# Altium footprint library ad.PcbLib: 129 footprints (part 6 of 12)
Each footprint in its own frame and in the unit in brackets; x right, y up, seen from the top. Pads: shape width x height; smd on the part's side, far side on the other; paste and mask are expansions set on the pad; w line width, h text height; cw(c..) or ccw(c..) is an arc to the next point about the centre after c.
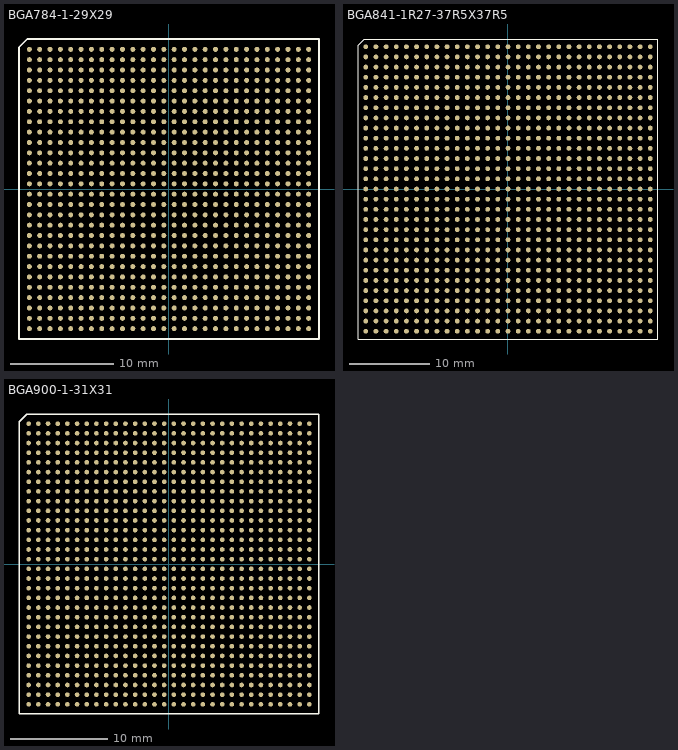
[diagram p5: the footprints below, top view; thin cyan lines are the x and y axes]

## BGA784-1-29X29 [mm]
pads (784):
  round 0.48 smd: A1(-13.5,13.5) A2(-12.5,13.5) A3(-11.5,13.5) A4(-10.5,13.5) A5(-9.5,13.5) A6(-8.5,13.5) A7(-7.5,13.5) A8(-6.5,13.5) A9(-5.5,13.5) A10(-4.5,13.5) A11(-3.5,13.5) A12(-2.5,13.5) A13(-1.5,13.5) A14(-0.5,13.5) A15(0.5,13.5) A16(1.5,13.5) A17(2.5,13.5) A18(3.5,13.5) A19(4.5,13.5) A20(5.5,13.5) A21(6.5,13.5) A22(7.5,13.5) A23(8.5,13.5) A24(9.5,13.5) A25(10.5,13.5) A26(11.5,13.5) A27(12.5,13.5) A28(13.5,13.5) AA1(-13.5,-6.5) AA2(-12.5,-6.5) AA3(-11.5,-6.5) AA4(-10.5,-6.5) AA5(-9.5,-6.5) AA6(-8.5,-6.5) AA7(-7.5,-6.5) AA8(-6.5,-6.5) AA9(-5.5,-6.5) AA10(-4.5,-6.5) AA11(-3.5,-6.5) AA12(-2.5,-6.5) AA13(-1.5,-6.5) AA14(-0.5,-6.5) AA15(0.5,-6.5) AA16(1.5,-6.5) AA17(2.5,-6.5) AA18(3.5,-6.5) AA19(4.5,-6.5) AA20(5.5,-6.5) AA21(6.5,-6.5) AA22(7.5,-6.5) AA23(8.5,-6.5) AA24(9.5,-6.5) AA25(10.5,-6.5) AA26(11.5,-6.5) AA27(12.5,-6.5) AA28(13.5,-6.5) AB1(-13.5,-7.5) AB2(-12.5,-7.5) AB3(-11.5,-7.5) AB4(-10.5,-7.5) AB5(-9.5,-7.5) AB6(-8.5,-7.5) AB7(-7.5,-7.5) AB8(-6.5,-7.5) AB9(-5.5,-7.5) AB10(-4.5,-7.5) AB11(-3.5,-7.5) AB12(-2.5,-7.5) AB13(-1.5,-7.5) AB14(-0.5,-7.5) AB15(0.5,-7.5) AB16(1.5,-7.5) AB17(2.5,-7.5) AB18(3.5,-7.5) AB19(4.5,-7.5) AB20(5.5,-7.5) AB21(6.5,-7.5) AB22(7.5,-7.5) AB23(8.5,-7.5) AB24(9.5,-7.5) AB25(10.5,-7.5) AB26(11.5,-7.5) AB27(12.5,-7.5) AB28(13.5,-7.5) AC1(-13.5,-8.5) AC2(-12.5,-8.5) AC3(-11.5,-8.5) AC4(-10.5,-8.5) AC5(-9.5,-8.5) AC6(-8.5,-8.5) AC7(-7.5,-8.5) AC8(-6.5,-8.5) AC9(-5.5,-8.5) AC10(-4.5,-8.5) AC11(-3.5,-8.5) AC12(-2.5,-8.5) AC13(-1.5,-8.5) AC14(-0.5,-8.5) AC15(0.5,-8.5) AC16(1.5,-8.5) AC17(2.5,-8.5) AC18(3.5,-8.5) AC19(4.5,-8.5) AC20(5.5,-8.5) AC21(6.5,-8.5) AC22(7.5,-8.5) AC23(8.5,-8.5) AC24(9.5,-8.5) AC25(10.5,-8.5) AC26(11.5,-8.5) AC27(12.5,-8.5) AC28(13.5,-8.5) AD1(-13.5,-9.5) AD2(-12.5,-9.5) AD3(-11.5,-9.5) AD4(-10.5,-9.5) AD5(-9.5,-9.5) AD6(-8.5,-9.5) AD7(-7.5,-9.5) AD8(-6.5,-9.5) AD9(-5.5,-9.5) AD10(-4.5,-9.5) AD11(-3.5,-9.5) AD12(-2.5,-9.5) AD13(-1.5,-9.5) AD14(-0.5,-9.5) AD15(0.5,-9.5) AD16(1.5,-9.5) AD17(2.5,-9.5) AD18(3.5,-9.5) AD19(4.5,-9.5) AD20(5.5,-9.5) AD21(6.5,-9.5) AD22(7.5,-9.5) AD23(8.5,-9.5) AD24(9.5,-9.5) AD25(10.5,-9.5) AD26(11.5,-9.5) AD27(12.5,-9.5) AD28(13.5,-9.5) AE1(-13.5,-10.5) AE2(-12.5,-10.5) AE3(-11.5,-10.5) AE4(-10.5,-10.5) AE5(-9.5,-10.5) AE6(-8.5,-10.5) AE7(-7.5,-10.5) AE8(-6.5,-10.5) AE9(-5.5,-10.5) AE10(-4.5,-10.5) AE11(-3.5,-10.5) AE12(-2.5,-10.5) AE13(-1.5,-10.5) AE14(-0.5,-10.5) AE15(0.5,-10.5) AE16(1.5,-10.5) AE17(2.5,-10.5) AE18(3.5,-10.5) AE19(4.5,-10.5) AE20(5.5,-10.5) AE21(6.5,-10.5) AE22(7.5,-10.5) AE23(8.5,-10.5) AE24(9.5,-10.5) AE25(10.5,-10.5) AE26(11.5,-10.5) AE27(12.5,-10.5) AE28(13.5,-10.5) AF1(-13.5,-11.5) AF2(-12.5,-11.5) AF3(-11.5,-11.5) AF4(-10.5,-11.5) AF5(-9.5,-11.5) AF6(-8.5,-11.5) AF7(-7.5,-11.5) AF8(-6.5,-11.5) AF9(-5.5,-11.5) AF10(-4.5,-11.5) AF11(-3.5,-11.5) AF12(-2.5,-11.5) AF13(-1.5,-11.5) AF14(-0.5,-11.5) AF15(0.5,-11.5) AF16(1.5,-11.5) AF17(2.5,-11.5) AF18(3.5,-11.5) AF19(4.5,-11.5) AF20(5.5,-11.5) AF21(6.5,-11.5) AF22(7.5,-11.5) AF23(8.5,-11.5) AF24(9.5,-11.5) AF25(10.5,-11.5) AF26(11.5,-11.5) AF27(12.5,-11.5) AF28(13.5,-11.5) AG1(-13.5,-12.5) AG2(-12.5,-12.5) AG3(-11.5,-12.5) AG4(-10.5,-12.5) AG5(-9.5,-12.5) AG6(-8.5,-12.5) AG7(-7.5,-12.5) AG8(-6.5,-12.5) AG9(-5.5,-12.5) AG10(-4.5,-12.5) AG11(-3.5,-12.5) AG12(-2.5,-12.5) AG13(-1.5,-12.5) AG14(-0.5,-12.5) AG15(0.5,-12.5) AG16(1.5,-12.5) AG17(2.5,-12.5) AG18(3.5,-12.5) AG19(4.5,-12.5) AG20(5.5,-12.5) AG21(6.5,-12.5) AG22(7.5,-12.5) AG23(8.5,-12.5) AG24(9.5,-12.5) AG25(10.5,-12.5) AG26(11.5,-12.5) AG27(12.5,-12.5) AG28(13.5,-12.5) AH1(-13.5,-13.5) AH2(-12.5,-13.5) AH3(-11.5,-13.5) AH4(-10.5,-13.5) AH5(-9.5,-13.5) AH6(-8.5,-13.5) AH7(-7.5,-13.5) AH8(-6.5,-13.5) AH9(-5.5,-13.5) AH10(-4.5,-13.5) AH11(-3.5,-13.5) AH12(-2.5,-13.5) AH13(-1.5,-13.5) AH14(-0.5,-13.5) AH15(0.5,-13.5) AH16(1.5,-13.5) AH17(2.5,-13.5) AH18(3.5,-13.5) AH19(4.5,-13.5) AH20(5.5,-13.5) AH21(6.5,-13.5) AH22(7.5,-13.5) AH23(8.5,-13.5) AH24(9.5,-13.5) AH25(10.5,-13.5) AH26(11.5,-13.5) AH27(12.5,-13.5) AH28(13.5,-13.5) B1(-13.5,12.5) B2(-12.5,12.5) B3(-11.5,12.5) B4(-10.5,12.5) B5(-9.5,12.5) B6(-8.5,12.5) B7(-7.5,12.5) B8(-6.5,12.5) B9(-5.5,12.5) B10(-4.5,12.5) B11(-3.5,12.5) B12(-2.5,12.5) B13(-1.5,12.5) B14(-0.5,12.5) B15(0.5,12.5) B16(1.5,12.5) B17(2.5,12.5) B18(3.5,12.5) B19(4.5,12.5) B20(5.5,12.5) B21(6.5,12.5) B22(7.5,12.5) B23(8.5,12.5) B24(9.5,12.5) B25(10.5,12.5) B26(11.5,12.5) B27(12.5,12.5) B28(13.5,12.5) C1(-13.5,11.5) C2(-12.5,11.5) C3(-11.5,11.5) C4(-10.5,11.5) C5(-9.5,11.5) C6(-8.5,11.5) C7(-7.5,11.5) C8(-6.5,11.5) C9(-5.5,11.5) C10(-4.5,11.5) C11(-3.5,11.5) C12(-2.5,11.5) C13(-1.5,11.5) C14(-0.5,11.5) C15(0.5,11.5) C16(1.5,11.5) C17(2.5,11.5) C18(3.5,11.5) C19(4.5,11.5) C20(5.5,11.5) C21(6.5,11.5) C22(7.5,11.5) C23(8.5,11.5) C24(9.5,11.5) C25(10.5,11.5) C26(11.5,11.5) C27(12.5,11.5) C28(13.5,11.5) D1(-13.5,10.5) D2(-12.5,10.5) D3(-11.5,10.5) D4(-10.5,10.5) D5(-9.5,10.5) D6(-8.5,10.5) D7(-7.5,10.5) D8(-6.5,10.5) D9(-5.5,10.5) D10(-4.5,10.5) D11(-3.5,10.5) D12(-2.5,10.5) D13(-1.5,10.5) D14(-0.5,10.5) D15(0.5,10.5) D16(1.5,10.5) D17(2.5,10.5) D18(3.5,10.5) D19(4.5,10.5) D20(5.5,10.5) D21(6.5,10.5) D22(7.5,10.5) D23(8.5,10.5) D24(9.5,10.5) D25(10.5,10.5) D26(11.5,10.5) D27(12.5,10.5) D28(13.5,10.5) E1(-13.5,9.5) E2(-12.5,9.5) E3(-11.5,9.5) E4(-10.5,9.5) E5(-9.5,9.5) E6(-8.5,9.5) E7(-7.5,9.5) E8(-6.5,9.5) E9(-5.5,9.5) E10(-4.5,9.5) E11(-3.5,9.5) E12(-2.5,9.5) E13(-1.5,9.5) E14(-0.5,9.5) E15(0.5,9.5) E16(1.5,9.5) E17(2.5,9.5) E18(3.5,9.5) E19(4.5,9.5) E20(5.5,9.5) E21(6.5,9.5) E22(7.5,9.5) E23(8.5,9.5) E24(9.5,9.5) E25(10.5,9.5) E26(11.5,9.5) E27(12.5,9.5) E28(13.5,9.5) F1(-13.5,8.5) F2(-12.5,8.5) F3(-11.5,8.5) F4(-10.5,8.5) F5(-9.5,8.5) F6(-8.5,8.5) F7(-7.5,8.5) F8(-6.5,8.5) F9(-5.5,8.5) F10(-4.5,8.5) F11(-3.5,8.5) F12(-2.5,8.5) F13(-1.5,8.5) F14(-0.5,8.5) F15(0.5,8.5) F16(1.5,8.5) F17(2.5,8.5) F18(3.5,8.5) F19(4.5,8.5) F20(5.5,8.5) F21(6.5,8.5) F22(7.5,8.5) F23(8.5,8.5) F24(9.5,8.5) F25(10.5,8.5) F26(11.5,8.5) F27(12.5,8.5) F28(13.5,8.5) G1(-13.5,7.5) G2(-12.5,7.5) G3(-11.5,7.5) G4(-10.5,7.5) G5(-9.5,7.5) G6(-8.5,7.5) G7(-7.5,7.5) G8(-6.5,7.5) G9(-5.5,7.5) G10(-4.5,7.5) G11(-3.5,7.5) G12(-2.5,7.5) G13(-1.5,7.5) G14(-0.5,7.5) G15(0.5,7.5) G16(1.5,7.5) G17(2.5,7.5) G18(3.5,7.5) G19(4.5,7.5) G20(5.5,7.5) G21(6.5,7.5) G22(7.5,7.5) G23(8.5,7.5) G24(9.5,7.5) G25(10.5,7.5) G26(11.5,7.5) G27(12.5,7.5) G28(13.5,7.5) H1(-13.5,6.5) H2(-12.5,6.5) H3(-11.5,6.5) H4(-10.5,6.5) H5(-9.5,6.5) H6(-8.5,6.5) H7(-7.5,6.5) H8(-6.5,6.5) H9(-5.5,6.5) H10(-4.5,6.5) H11(-3.5,6.5) H12(-2.5,6.5) H13(-1.5,6.5) H14(-0.5,6.5) H15(0.5,6.5) H16(1.5,6.5) H17(2.5,6.5) H18(3.5,6.5) H19(4.5,6.5) H20(5.5,6.5) H21(6.5,6.5) H22(7.5,6.5) H23(8.5,6.5) H24(9.5,6.5) H25(10.5,6.5) H26(11.5,6.5) H27(12.5,6.5) H28(13.5,6.5) J1(-13.5,5.5) J2(-12.5,5.5) J3(-11.5,5.5) J4(-10.5,5.5) J5(-9.5,5.5) J6(-8.5,5.5) J7(-7.5,5.5) J8(-6.5,5.5) J9(-5.5,5.5) J10(-4.5,5.5) J11(-3.5,5.5) J12(-2.5,5.5) J13(-1.5,5.5) J14(-0.5,5.5) J15(0.5,5.5) J16(1.5,5.5) J17(2.5,5.5) J18(3.5,5.5) J19(4.5,5.5) J20(5.5,5.5) J21(6.5,5.5) J22(7.5,5.5) J23(8.5,5.5) J24(9.5,5.5) J25(10.5,5.5) J26(11.5,5.5) J27(12.5,5.5) J28(13.5,5.5) K1(-13.5,4.5) K2(-12.5,4.5) K3(-11.5,4.5) K4(-10.5,4.5) K5(-9.5,4.5) K6(-8.5,4.5) K7(-7.5,4.5) K8(-6.5,4.5) K9(-5.5,4.5) K10(-4.5,4.5) K11(-3.5,4.5) K12(-2.5,4.5) K13(-1.5,4.5) K14(-0.5,4.5) K15(0.5,4.5) K16(1.5,4.5) K17(2.5,4.5) K18(3.5,4.5) K19(4.5,4.5) K20(5.5,4.5) K21(6.5,4.5) K22(7.5,4.5) K23(8.5,4.5) K24(9.5,4.5) K25(10.5,4.5) K26(11.5,4.5) K27(12.5,4.5) K28(13.5,4.5) L1(-13.5,3.5) L2(-12.5,3.5) L3(-11.5,3.5) L4(-10.5,3.5) L5(-9.5,3.5) L6(-8.5,3.5) L7(-7.5,3.5) L8(-6.5,3.5) L9(-5.5,3.5) L10(-4.5,3.5) L11(-3.5,3.5) L12(-2.5,3.5) L13(-1.5,3.5) L14(-0.5,3.5) L15(0.5,3.5) L16(1.5,3.5) L17(2.5,3.5) L18(3.5,3.5) L19(4.5,3.5) L20(5.5,3.5) L21(6.5,3.5) L22(7.5,3.5) L23(8.5,3.5) L24(9.5,3.5) L25(10.5,3.5) L26(11.5,3.5) L27(12.5,3.5) L28(13.5,3.5) M1(-13.5,2.5) M2(-12.5,2.5) M3(-11.5,2.5) M4(-10.5,2.5) M5(-9.5,2.5) M6(-8.5,2.5) M7(-7.5,2.5) M8(-6.5,2.5) M9(-5.5,2.5) M10(-4.5,2.5) M11(-3.5,2.5) M12(-2.5,2.5) M13(-1.5,2.5) M14(-0.5,2.5) M15(0.5,2.5) M16(1.5,2.5) M17(2.5,2.5) M18(3.5,2.5) M19(4.5,2.5) M20(5.5,2.5) M21(6.5,2.5) M22(7.5,2.5) M23(8.5,2.5) M24(9.5,2.5) M25(10.5,2.5) M26(11.5,2.5) M27(12.5,2.5) M28(13.5,2.5) N1(-13.5,1.5) N2(-12.5,1.5) N3(-11.5,1.5) N4(-10.5,1.5) N5(-9.5,1.5) N6(-8.5,1.5) N7(-7.5,1.5) N8(-6.5,1.5) N9(-5.5,1.5) N10(-4.5,1.5) N11(-3.5,1.5) N12(-2.5,1.5) N13(-1.5,1.5) N14(-0.5,1.5) N15(0.5,1.5) N16(1.5,1.5) N17(2.5,1.5) N18(3.5,1.5) N19(4.5,1.5) N20(5.5,1.5) N21(6.5,1.5) N22(7.5,1.5) N23(8.5,1.5) N24(9.5,1.5) N25(10.5,1.5) N26(11.5,1.5) N27(12.5,1.5) N28(13.5,1.5) P1(-13.5,0.5) P2(-12.5,0.5) P3(-11.5,0.5) P4(-10.5,0.5) P5(-9.5,0.5) P6(-8.5,0.5) P7(-7.5,0.5) P8(-6.5,0.5) P9(-5.5,0.5) P10(-4.5,0.5) P11(-3.5,0.5) P12(-2.5,0.5) P13(-1.5,0.5) P14(-0.5,0.5) P15(0.5,0.5) P16(1.5,0.5) P17(2.5,0.5) P18(3.5,0.5) P19(4.5,0.5) P20(5.5,0.5) P21(6.5,0.5) P22(7.5,0.5) P23(8.5,0.5) P24(9.5,0.5) P25(10.5,0.5) P26(11.5,0.5) P27(12.5,0.5) P28(13.5,0.5) R1(-13.5,-0.5) R2(-12.5,-0.5) R3(-11.5,-0.5) R4(-10.5,-0.5) R5(-9.5,-0.5) R6(-8.5,-0.5) R7(-7.5,-0.5) R8(-6.5,-0.5) R9(-5.5,-0.5) R10(-4.5,-0.5) R11(-3.5,-0.5) R12(-2.5,-0.5) R13(-1.5,-0.5) R14(-0.5,-0.5) R15(0.5,-0.5) R16(1.5,-0.5) R17(2.5,-0.5) R18(3.5,-0.5) R19(4.5,-0.5) R20(5.5,-0.5) R21(6.5,-0.5) R22(7.5,-0.5) R23(8.5,-0.5) R24(9.5,-0.5) R25(10.5,-0.5) R26(11.5,-0.5) R27(12.5,-0.5) R28(13.5,-0.5) T1(-13.5,-1.5) T2(-12.5,-1.5) T3(-11.5,-1.5) T4(-10.5,-1.5) T5(-9.5,-1.5) T6(-8.5,-1.5) T7(-7.5,-1.5) T8(-6.5,-1.5) T9(-5.5,-1.5) T10(-4.5,-1.5) T11(-3.5,-1.5) T12(-2.5,-1.5) T13(-1.5,-1.5) T14(-0.5,-1.5) T15(0.5,-1.5) T16(1.5,-1.5) T17(2.5,-1.5) T18(3.5,-1.5) T19(4.5,-1.5) T20(5.5,-1.5) T21(6.5,-1.5) T22(7.5,-1.5) T23(8.5,-1.5) T24(9.5,-1.5) T25(10.5,-1.5) T26(11.5,-1.5) T27(12.5,-1.5) T28(13.5,-1.5) U1(-13.5,-2.5) U2(-12.5,-2.5) U3(-11.5,-2.5) U4(-10.5,-2.5) U5(-9.5,-2.5) U6(-8.5,-2.5) U7(-7.5,-2.5) U8(-6.5,-2.5) U9(-5.5,-2.5) U10(-4.5,-2.5) U11(-3.5,-2.5) U12(-2.5,-2.5) U13(-1.5,-2.5) U14(-0.5,-2.5) U15(0.5,-2.5) U16(1.5,-2.5) U17(2.5,-2.5) U18(3.5,-2.5) U19(4.5,-2.5) U20(5.5,-2.5) U21(6.5,-2.5) U22(7.5,-2.5) U23(8.5,-2.5) U24(9.5,-2.5) U25(10.5,-2.5) U26(11.5,-2.5) U27(12.5,-2.5) U28(13.5,-2.5) V1(-13.5,-3.5) V2(-12.5,-3.5) V3(-11.5,-3.5) V4(-10.5,-3.5) V5(-9.5,-3.5) V6(-8.5,-3.5) V7(-7.5,-3.5) V8(-6.5,-3.5) V9(-5.5,-3.5) V10(-4.5,-3.5) V11(-3.5,-3.5) V12(-2.5,-3.5) V13(-1.5,-3.5) V14(-0.5,-3.5) V15(0.5,-3.5) V16(1.5,-3.5) V17(2.5,-3.5) V18(3.5,-3.5) V19(4.5,-3.5) V20(5.5,-3.5) V21(6.5,-3.5) V22(7.5,-3.5) V23(8.5,-3.5) V24(9.5,-3.5) V25(10.5,-3.5) V26(11.5,-3.5) V27(12.5,-3.5) V28(13.5,-3.5) W1(-13.5,-4.5) W2(-12.5,-4.5) W3(-11.5,-4.5) W4(-10.5,-4.5) W5(-9.5,-4.5) W6(-8.5,-4.5) W7(-7.5,-4.5) W8(-6.5,-4.5) W9(-5.5,-4.5) W10(-4.5,-4.5) W11(-3.5,-4.5) W12(-2.5,-4.5) W13(-1.5,-4.5) W14(-0.5,-4.5) W15(0.5,-4.5) W16(1.5,-4.5) W17(2.5,-4.5) W18(3.5,-4.5) W19(4.5,-4.5) W20(5.5,-4.5) W21(6.5,-4.5) W22(7.5,-4.5) W23(8.5,-4.5) W24(9.5,-4.5) W25(10.5,-4.5) W26(11.5,-4.5) W27(12.5,-4.5) W28(13.5,-4.5) Y1(-13.5,-5.5) Y2(-12.5,-5.5) Y3(-11.5,-5.5) Y4(-10.5,-5.5) Y5(-9.5,-5.5) Y6(-8.5,-5.5) Y7(-7.5,-5.5) Y8(-6.5,-5.5) Y9(-5.5,-5.5) Y10(-4.5,-5.5) Y11(-3.5,-5.5) Y12(-2.5,-5.5) Y13(-1.5,-5.5) Y14(-0.5,-5.5) Y15(0.5,-5.5) Y16(1.5,-5.5) Y17(2.5,-5.5) Y18(3.5,-5.5) Y19(4.5,-5.5) Y20(5.5,-5.5) Y21(6.5,-5.5) Y22(7.5,-5.5) Y23(8.5,-5.5) Y24(9.5,-5.5) Y25(10.5,-5.5) Y26(11.5,-5.5) Y27(12.5,-5.5) Y28(13.5,-5.5)
Top Overlay:
  lines w0.15: -14.5,-14.5 14.5,-14.5 14.5,14.5 -13.7,14.5 -14.5,13.7 -14.5,-14.5

## BGA841-1R27-37R5X37R5 [mm]
pads (841):
  round 0.6 smd: A1(-17.78,17.78) A2(-16.51,17.78) A3(-15.24,17.78) A4(-13.97,17.78) A5(-12.7,17.78) A6(-11.43,17.78) A7(-10.16,17.78) A8(-8.89,17.78) A9(-7.62,17.78) A10(-6.35,17.78) A11(-5.08,17.78) A12(-3.81,17.78) A13(-2.54,17.78) A14(-1.27,17.78) A15(0,17.78) A16(1.27,17.78) A17(2.54,17.78) A18(3.81,17.78) A19(5.08,17.78) A20(6.35,17.78) A21(7.62,17.78) A22(8.89,17.78) A23(10.16,17.78) A24(11.43,17.78) A25(12.7,17.78) A26(13.97,17.78) A27(15.24,17.78) A28(16.51,17.78) A29(17.78,17.78) AA1(-17.78,-7.62) AA2(-16.51,-7.62) AA3(-15.24,-7.62) AA4(-13.97,-7.62) AA5(-12.7,-7.62) AA6(-11.43,-7.62) AA7(-10.16,-7.62) AA8(-8.89,-7.62) AA9(-7.62,-7.62) AA10(-6.35,-7.62) AA11(-5.08,-7.62) AA12(-3.81,-7.62) AA13(-2.54,-7.62) AA14(-1.27,-7.62) AA15(0,-7.62) AA16(1.27,-7.62) AA17(2.54,-7.62) AA18(3.81,-7.62) AA19(5.08,-7.62) AA20(6.35,-7.62) AA21(7.62,-7.62) AA22(8.89,-7.62) AA23(10.16,-7.62) AA24(11.43,-7.62) AA25(12.7,-7.62) AA26(13.97,-7.62) AA27(15.24,-7.62) AA28(16.51,-7.62) AA29(17.78,-7.62) AB1(-17.78,-8.89) AB2(-16.51,-8.89) AB3(-15.24,-8.89) AB4(-13.97,-8.89) AB5(-12.7,-8.89) AB6(-11.43,-8.89) AB7(-10.16,-8.89) AB8(-8.89,-8.89) AB9(-7.62,-8.89) AB10(-6.35,-8.89) AB11(-5.08,-8.89) AB12(-3.81,-8.89) AB13(-2.54,-8.89) AB14(-1.27,-8.89) AB15(0,-8.89) AB16(1.27,-8.89) AB17(2.54,-8.89) AB18(3.81,-8.89) AB19(5.08,-8.89) AB20(6.35,-8.89) AB21(7.62,-8.89) AB22(8.89,-8.89) AB23(10.16,-8.89) AB24(11.43,-8.89) AB25(12.7,-8.89) AB26(13.97,-8.89) AB27(15.24,-8.89) AB28(16.51,-8.89) AB29(17.78,-8.89) AC1(-17.78,-10.16) AC2(-16.51,-10.16) AC3(-15.24,-10.16) AC4(-13.97,-10.16) AC5(-12.7,-10.16) AC6(-11.43,-10.16) AC7(-10.16,-10.16) AC8(-8.89,-10.16) AC9(-7.62,-10.16) AC10(-6.35,-10.16) AC11(-5.08,-10.16) AC12(-3.81,-10.16) AC13(-2.54,-10.16) AC14(-1.27,-10.16) AC15(0,-10.16) AC16(1.27,-10.16) AC17(2.54,-10.16) AC18(3.81,-10.16) AC19(5.08,-10.16) AC20(6.35,-10.16) AC21(7.62,-10.16) AC22(8.89,-10.16) AC23(10.16,-10.16) AC24(11.43,-10.16) AC25(12.7,-10.16) AC26(13.97,-10.16) AC27(15.24,-10.16) AC28(16.51,-10.16) AC29(17.78,-10.16) AD1(-17.78,-11.43) AD2(-16.51,-11.43) AD3(-15.24,-11.43) AD4(-13.97,-11.43) AD5(-12.7,-11.43) AD6(-11.43,-11.43) AD7(-10.16,-11.43) AD8(-8.89,-11.43) AD9(-7.62,-11.43) AD10(-6.35,-11.43) AD11(-5.08,-11.43) AD12(-3.81,-11.43) AD13(-2.54,-11.43) AD14(-1.27,-11.43) AD15(0,-11.43) AD16(1.27,-11.43) AD17(2.54,-11.43) AD18(3.81,-11.43) AD19(5.08,-11.43) AD20(6.35,-11.43) AD21(7.62,-11.43) AD22(8.89,-11.43) AD23(10.16,-11.43) AD24(11.43,-11.43) AD25(12.7,-11.43) AD26(13.97,-11.43) AD27(15.24,-11.43) AD28(16.51,-11.43) AD29(17.78,-11.43) AE1(-17.78,-12.7) AE2(-16.51,-12.7) AE3(-15.24,-12.7) AE4(-13.97,-12.7) AE5(-12.7,-12.7) AE6(-11.43,-12.7) AE7(-10.16,-12.7) AE8(-8.89,-12.7) AE9(-7.62,-12.7) AE10(-6.35,-12.7) AE11(-5.08,-12.7) AE12(-3.81,-12.7) AE13(-2.54,-12.7) AE14(-1.27,-12.7) AE15(0,-12.7) AE16(1.27,-12.7) AE17(2.54,-12.7) AE18(3.81,-12.7) AE19(5.08,-12.7) AE20(6.35,-12.7) AE21(7.62,-12.7) AE22(8.89,-12.7) AE23(10.16,-12.7) AE24(11.43,-12.7) AE25(12.7,-12.7) AE26(13.97,-12.7) AE27(15.24,-12.7) AE28(16.51,-12.7) AE29(17.78,-12.7) AF1(-17.78,-13.97) AF2(-16.51,-13.97) AF3(-15.24,-13.97) AF4(-13.97,-13.97) AF5(-12.7,-13.97) AF6(-11.43,-13.97) AF7(-10.16,-13.97) AF8(-8.89,-13.97) AF9(-7.62,-13.97) AF10(-6.35,-13.97) AF11(-5.08,-13.97) AF12(-3.81,-13.97) AF13(-2.54,-13.97) AF14(-1.27,-13.97) AF15(0,-13.97) AF16(1.27,-13.97) AF17(2.54,-13.97) AF18(3.81,-13.97) AF19(5.08,-13.97) AF20(6.35,-13.97) AF21(7.62,-13.97) AF22(8.89,-13.97) AF23(10.16,-13.97) AF24(11.43,-13.97) AF25(12.7,-13.97) AF26(13.97,-13.97) AF27(15.24,-13.97) AF28(16.51,-13.97) AF29(17.78,-13.97) AG1(-17.78,-15.24) AG2(-16.51,-15.24) AG3(-15.24,-15.24) AG4(-13.97,-15.24) AG5(-12.7,-15.24) AG6(-11.43,-15.24) AG7(-10.16,-15.24) AG8(-8.89,-15.24) AG9(-7.62,-15.24) AG10(-6.35,-15.24) AG11(-5.08,-15.24) AG12(-3.81,-15.24) AG13(-2.54,-15.24) AG14(-1.27,-15.24) AG15(0,-15.24) AG16(1.27,-15.24) AG17(2.54,-15.24) AG18(3.81,-15.24) AG19(5.08,-15.24) AG20(6.35,-15.24) AG21(7.62,-15.24) AG22(8.89,-15.24) AG23(10.16,-15.24) AG24(11.43,-15.24) AG25(12.7,-15.24) AG26(13.97,-15.24) AG27(15.24,-15.24) AG28(16.51,-15.24) AG29(17.78,-15.24) AH1(-17.78,-16.51) AH2(-16.51,-16.51) AH3(-15.24,-16.51) AH4(-13.97,-16.51) AH5(-12.7,-16.51) AH6(-11.43,-16.51) AH7(-10.16,-16.51) AH8(-8.89,-16.51) AH9(-7.62,-16.51) AH10(-6.35,-16.51) AH11(-5.08,-16.51) AH12(-3.81,-16.51) AH13(-2.54,-16.51) AH14(-1.27,-16.51) AH15(0,-16.51) AH16(1.27,-16.51) AH17(2.54,-16.51) AH18(3.81,-16.51) AH19(5.08,-16.51) AH20(6.35,-16.51) AH21(7.62,-16.51) AH22(8.89,-16.51) AH23(10.16,-16.51) AH24(11.43,-16.51) AH25(12.7,-16.51) AH26(13.97,-16.51) AH27(15.24,-16.51) AH28(16.51,-16.51) AH29(17.78,-16.51) AJ1(-17.78,-17.78) AJ2(-16.51,-17.78) AJ3(-15.24,-17.78) AJ4(-13.97,-17.78) AJ5(-12.7,-17.78) AJ6(-11.43,-17.78) AJ7(-10.16,-17.78) AJ8(-8.89,-17.78) AJ9(-7.62,-17.78) AJ10(-6.35,-17.78) AJ11(-5.08,-17.78) AJ12(-3.81,-17.78) AJ13(-2.54,-17.78) AJ14(-1.27,-17.78) AJ15(0,-17.78) AJ16(1.27,-17.78) AJ17(2.54,-17.78) AJ18(3.81,-17.78) AJ19(5.08,-17.78) AJ20(6.35,-17.78) AJ21(7.62,-17.78) AJ22(8.89,-17.78) AJ23(10.16,-17.78) AJ24(11.43,-17.78) AJ25(12.7,-17.78) AJ26(13.97,-17.78) AJ27(15.24,-17.78) AJ28(16.51,-17.78) AJ29(17.78,-17.78) B1(-17.78,16.51) B2(-16.51,16.51) B3(-15.24,16.51) B4(-13.97,16.51) B5(-12.7,16.51) B6(-11.43,16.51) B7(-10.16,16.51) B8(-8.89,16.51) B9(-7.62,16.51) B10(-6.35,16.51) B11(-5.08,16.51) B12(-3.81,16.51) B13(-2.54,16.51) B14(-1.27,16.51) B15(0,16.51) B16(1.27,16.51) B17(2.54,16.51) B18(3.81,16.51) B19(5.08,16.51) B20(6.35,16.51) B21(7.62,16.51) B22(8.89,16.51) B23(10.16,16.51) B24(11.43,16.51) B25(12.7,16.51) B26(13.97,16.51) B27(15.24,16.51) B28(16.51,16.51) B29(17.78,16.51) C1(-17.78,15.24) C2(-16.51,15.24) C3(-15.24,15.24) C4(-13.97,15.24) C5(-12.7,15.24) C6(-11.43,15.24) C7(-10.16,15.24) C8(-8.89,15.24) C9(-7.62,15.24) C10(-6.35,15.24) C11(-5.08,15.24) C12(-3.81,15.24) C13(-2.54,15.24) C14(-1.27,15.24) C15(0,15.24) C16(1.27,15.24) C17(2.54,15.24) C18(3.81,15.24) C19(5.08,15.24) C20(6.35,15.24) C21(7.62,15.24) C22(8.89,15.24) C23(10.16,15.24) C24(11.43,15.24) C25(12.7,15.24) C26(13.97,15.24) C27(15.24,15.24) C28(16.51,15.24) C29(17.78,15.24) D1(-17.78,13.97) D2(-16.51,13.97) D3(-15.24,13.97) D4(-13.97,13.97) D5(-12.7,13.97) D6(-11.43,13.97) D7(-10.16,13.97) D8(-8.89,13.97) D9(-7.62,13.97) D10(-6.35,13.97) D11(-5.08,13.97) D12(-3.81,13.97) D13(-2.54,13.97) D14(-1.27,13.97) D15(0,13.97) D16(1.27,13.97) D17(2.54,13.97) D18(3.81,13.97) D19(5.08,13.97) D20(6.35,13.97) D21(7.62,13.97) D22(8.89,13.97) D23(10.16,13.97) D24(11.43,13.97) D25(12.7,13.97) D26(13.97,13.97) D27(15.24,13.97) D28(16.51,13.97) D29(17.78,13.97) E1(-17.78,12.7) E2(-16.51,12.7) E3(-15.24,12.7) E4(-13.97,12.7) E5(-12.7,12.7) E6(-11.43,12.7) E7(-10.16,12.7) E8(-8.89,12.7) E9(-7.62,12.7) E10(-6.35,12.7) E11(-5.08,12.7) E12(-3.81,12.7) E13(-2.54,12.7) E14(-1.27,12.7) E15(0,12.7) E16(1.27,12.7) E17(2.54,12.7) E18(3.81,12.7) E19(5.08,12.7) E20(6.35,12.7) E21(7.62,12.7) E22(8.89,12.7) E23(10.16,12.7) E24(11.43,12.7) E25(12.7,12.7) E26(13.97,12.7) E27(15.24,12.7) E28(16.51,12.7) E29(17.78,12.7) F1(-17.78,11.43) F2(-16.51,11.43) F3(-15.24,11.43) F4(-13.97,11.43) F5(-12.7,11.43) F6(-11.43,11.43) F7(-10.16,11.43) F8(-8.89,11.43) F9(-7.62,11.43) F10(-6.35,11.43) F11(-5.08,11.43) F12(-3.81,11.43) F13(-2.54,11.43) F14(-1.27,11.43) F15(0,11.43) F16(1.27,11.43) F17(2.54,11.43) F18(3.81,11.43) F19(5.08,11.43) F20(6.35,11.43) F21(7.62,11.43) F22(8.89,11.43) F23(10.16,11.43) F24(11.43,11.43) F25(12.7,11.43) F26(13.97,11.43) F27(15.24,11.43) F28(16.51,11.43) F29(17.78,11.43) G1(-17.78,10.16) G2(-16.51,10.16) G3(-15.24,10.16) G4(-13.97,10.16) G5(-12.7,10.16) G6(-11.43,10.16) G7(-10.16,10.16) G8(-8.89,10.16) G9(-7.62,10.16) G10(-6.35,10.16) G11(-5.08,10.16) G12(-3.81,10.16) G13(-2.54,10.16) G14(-1.27,10.16) G15(0,10.16) G16(1.27,10.16) G17(2.54,10.16) G18(3.81,10.16) G19(5.08,10.16) G20(6.35,10.16) G21(7.62,10.16) G22(8.89,10.16) G23(10.16,10.16) G24(11.43,10.16) G25(12.7,10.16) G26(13.97,10.16) G27(15.24,10.16) G28(16.51,10.16) G29(17.78,10.16) H1(-17.78,8.89) H2(-16.51,8.89) H3(-15.24,8.89) H4(-13.97,8.89) H5(-12.7,8.89) H6(-11.43,8.89) H7(-10.16,8.89) H8(-8.89,8.89) H9(-7.62,8.89) H10(-6.35,8.89) H11(-5.08,8.89) H12(-3.81,8.89) H13(-2.54,8.89) H14(-1.27,8.89) H15(0,8.89) H16(1.27,8.89) H17(2.54,8.89) H18(3.81,8.89) H19(5.08,8.89) H20(6.35,8.89) H21(7.62,8.89) H22(8.89,8.89) H23(10.16,8.89) H24(11.43,8.89) H25(12.7,8.89) H26(13.97,8.89) H27(15.24,8.89) H28(16.51,8.89) H29(17.78,8.89) J1(-17.78,7.62) J2(-16.51,7.62) J3(-15.24,7.62) J4(-13.97,7.62) J5(-12.7,7.62) J6(-11.43,7.62) J7(-10.16,7.62) J8(-8.89,7.62) J9(-7.62,7.62) J10(-6.35,7.62) J11(-5.08,7.62) J12(-3.81,7.62) J13(-2.54,7.62) J14(-1.27,7.62) J15(0,7.62) J16(1.27,7.62) J17(2.54,7.62) J18(3.81,7.62) J19(5.08,7.62) J20(6.35,7.62) J21(7.62,7.62) J22(8.89,7.62) J23(10.16,7.62) J24(11.43,7.62) J25(12.7,7.62) J26(13.97,7.62) J27(15.24,7.62) J28(16.51,7.62) J29(17.78,7.62) K1(-17.78,6.35) K2(-16.51,6.35) K3(-15.24,6.35) K4(-13.97,6.35) K5(-12.7,6.35) K6(-11.43,6.35) K7(-10.16,6.35) K8(-8.89,6.35) K9(-7.62,6.35) K10(-6.35,6.35) K11(-5.08,6.35) K12(-3.81,6.35) K13(-2.54,6.35) K14(-1.27,6.35) K15(0,6.35) K16(1.27,6.35) K17(2.54,6.35) K18(3.81,6.35) K19(5.08,6.35) K20(6.35,6.35) K21(7.62,6.35) K22(8.89,6.35) K23(10.16,6.35) K24(11.43,6.35) K25(12.7,6.35) K26(13.97,6.35) K27(15.24,6.35) K28(16.51,6.35) K29(17.78,6.35) L1(-17.78,5.08) L2(-16.51,5.08) L3(-15.24,5.08) L4(-13.97,5.08) L5(-12.7,5.08) L6(-11.43,5.08) L7(-10.16,5.08) L8(-8.89,5.08) L9(-7.62,5.08) L10(-6.35,5.08) L11(-5.08,5.08) L12(-3.81,5.08) L13(-2.54,5.08) L14(-1.27,5.08) L15(0,5.08) L16(1.27,5.08) L17(2.54,5.08) L18(3.81,5.08) L19(5.08,5.08) L20(6.35,5.08) L21(7.62,5.08) L22(8.89,5.08) L23(10.16,5.08) L24(11.43,5.08) L25(12.7,5.08) L26(13.97,5.08) L27(15.24,5.08) L28(16.51,5.08) L29(17.78,5.08) M1(-17.78,3.81) M2(-16.51,3.81) M3(-15.24,3.81) M4(-13.97,3.81) M5(-12.7,3.81) M6(-11.43,3.81) M7(-10.16,3.81) M8(-8.89,3.81) M9(-7.62,3.81) M10(-6.35,3.81) M11(-5.08,3.81) M12(-3.81,3.81) M13(-2.54,3.81) M14(-1.27,3.81) M15(0,3.81) M16(1.27,3.81) M17(2.54,3.81) M18(3.81,3.81) M19(5.08,3.81) M20(6.35,3.81) M21(7.62,3.81) M22(8.89,3.81) M23(10.16,3.81) M24(11.43,3.81) M25(12.7,3.81) M26(13.97,3.81) M27(15.24,3.81) M28(16.51,3.81) M29(17.78,3.81) N1(-17.78,2.54) N2(-16.51,2.54) N3(-15.24,2.54) N4(-13.97,2.54) N5(-12.7,2.54) N6(-11.43,2.54) N7(-10.16,2.54) N8(-8.89,2.54) N9(-7.62,2.54) N10(-6.35,2.54) N11(-5.08,2.54) N12(-3.81,2.54) N13(-2.54,2.54) N14(-1.27,2.54) N15(0,2.54) N16(1.27,2.54) N17(2.54,2.54) N18(3.81,2.54) N19(5.08,2.54) N20(6.35,2.54) N21(7.62,2.54) N22(8.89,2.54) N23(10.16,2.54) N24(11.43,2.54) N25(12.7,2.54) N26(13.97,2.54) N27(15.24,2.54) N28(16.51,2.54) N29(17.78,2.54) P1(-17.78,1.27) P2(-16.51,1.27) P3(-15.24,1.27) P4(-13.97,1.27) P5(-12.7,1.27) P6(-11.43,1.27) P7(-10.16,1.27) P8(-8.89,1.27) P9(-7.62,1.27) P10(-6.35,1.27) P11(-5.08,1.27) P12(-3.81,1.27) P13(-2.54,1.27) P14(-1.27,1.27) P15(0,1.27) P16(1.27,1.27) P17(2.54,1.27) P18(3.81,1.27) P19(5.08,1.27) P20(6.35,1.27) P21(7.62,1.27) P22(8.89,1.27) P23(10.16,1.27) P24(11.43,1.27) P25(12.7,1.27) P26(13.97,1.27) P27(15.24,1.27) P28(16.51,1.27) P29(17.78,1.27) R1(-17.78,0) R2(-16.51,0) R3(-15.24,0) R4(-13.97,0) R5(-12.7,0) R6(-11.43,0) R7(-10.16,0) R8(-8.89,0) R9(-7.62,0) R10(-6.35,0) R11(-5.08,0) R12(-3.81,0) R13(-2.54,0) R14(-1.27,0) R15(0,0) R16(1.27,0) R17(2.54,0) R18(3.81,0) R19(5.08,0) R20(6.35,0) R21(7.62,0) R22(8.89,0) R23(10.16,0) R24(11.43,0) R25(12.7,0) R26(13.97,0) R27(15.24,0) R28(16.51,0) R29(17.78,0) T1(-17.78,-1.27) T2(-16.51,-1.27) T3(-15.24,-1.27) T4(-13.97,-1.27) T5(-12.7,-1.27) T6(-11.43,-1.27) T7(-10.16,-1.27) T8(-8.89,-1.27) T9(-7.62,-1.27) T10(-6.35,-1.27) T11(-5.08,-1.27) T12(-3.81,-1.27) T13(-2.54,-1.27) T14(-1.27,-1.27) T15(0,-1.27) T16(1.27,-1.27) T17(2.54,-1.27) T18(3.81,-1.27) T19(5.08,-1.27) T20(6.35,-1.27) T21(7.62,-1.27) T22(8.89,-1.27) T23(10.16,-1.27) T24(11.43,-1.27) T25(12.7,-1.27) T26(13.97,-1.27) T27(15.24,-1.27) T28(16.51,-1.27) T29(17.78,-1.27) U1(-17.78,-2.54) U2(-16.51,-2.54) U3(-15.24,-2.54) U4(-13.97,-2.54) U5(-12.7,-2.54) U6(-11.43,-2.54) U7(-10.16,-2.54) U8(-8.89,-2.54) U9(-7.62,-2.54) U10(-6.35,-2.54) U11(-5.08,-2.54) U12(-3.81,-2.54) U13(-2.54,-2.54) U14(-1.27,-2.54) U15(0,-2.54) U16(1.27,-2.54) U17(2.54,-2.54) U18(3.81,-2.54) U19(5.08,-2.54) U20(6.35,-2.54) U21(7.62,-2.54) U22(8.89,-2.54) U23(10.16,-2.54) U24(11.43,-2.54) U25(12.7,-2.54) U26(13.97,-2.54) U27(15.24,-2.54) U28(16.51,-2.54) U29(17.78,-2.54) V1(-17.78,-3.81) V2(-16.51,-3.81) V3(-15.24,-3.81) V4(-13.97,-3.81) V5(-12.7,-3.81) V6(-11.43,-3.81) V7(-10.16,-3.81) V8(-8.89,-3.81) V9(-7.62,-3.81) V10(-6.35,-3.81) V11(-5.08,-3.81) V12(-3.81,-3.81) V13(-2.54,-3.81) V14(-1.27,-3.81) V15(0,-3.81) V16(1.27,-3.81) V17(2.54,-3.81) V18(3.81,-3.81) V19(5.08,-3.81) V20(6.35,-3.81) V21(7.62,-3.81) V22(8.89,-3.81) V23(10.16,-3.81) V24(11.43,-3.81) V25(12.7,-3.81) V26(13.97,-3.81) V27(15.24,-3.81) V28(16.51,-3.81) V29(17.78,-3.81) W1(-17.78,-5.08) W2(-16.51,-5.08) W3(-15.24,-5.08) W4(-13.97,-5.08) W5(-12.7,-5.08) W6(-11.43,-5.08) W7(-10.16,-5.08) W8(-8.89,-5.08) W9(-7.62,-5.08) W10(-6.35,-5.08) W11(-5.08,-5.08) W12(-3.81,-5.08) W13(-2.54,-5.08) W14(-1.27,-5.08) W15(0,-5.08) W16(1.27,-5.08) W17(2.54,-5.08) W18(3.81,-5.08) W19(5.08,-5.08) W20(6.35,-5.08) W21(7.62,-5.08) W22(8.89,-5.08) W23(10.16,-5.08) W24(11.43,-5.08) W25(12.7,-5.08) W26(13.97,-5.08) W27(15.24,-5.08) W28(16.51,-5.08) W29(17.78,-5.08) Y1(-17.78,-6.35) Y2(-16.51,-6.35) Y3(-15.24,-6.35) Y4(-13.97,-6.35) Y5(-12.7,-6.35) Y6(-11.43,-6.35) Y7(-10.16,-6.35) Y8(-8.89,-6.35) Y9(-7.62,-6.35) Y10(-6.35,-6.35) Y11(-5.08,-6.35) Y12(-3.81,-6.35) Y13(-2.54,-6.35) Y14(-1.27,-6.35) Y15(0,-6.35) Y16(1.27,-6.35) Y17(2.54,-6.35) Y18(3.81,-6.35) Y19(5.08,-6.35) Y20(6.35,-6.35) Y21(7.62,-6.35) Y22(8.89,-6.35) Y23(10.16,-6.35) Y24(11.43,-6.35) Y25(12.7,-6.35) Y26(13.97,-6.35) Y27(15.24,-6.35) Y28(16.51,-6.35) Y29(17.78,-6.35)
Top Overlay:
  lines w0.15: -18.75,-18.75 -18.75,17.95 -17.95,18.75 18.75,18.75 18.75,-18.75 -18.75,-18.75

## BGA900-1-31X31 [mm]
pads (900):
  round 0.48 smd: A1(-14.5,14.5) A2(-13.5,14.5) A3(-12.5,14.5) A4(-11.5,14.5) A5(-10.5,14.5) A6(-9.5,14.5) A7(-8.5,14.5) A8(-7.5,14.5) A9(-6.5,14.5) A10(-5.5,14.5) A11(-4.5,14.5) A12(-3.5,14.5) A13(-2.5,14.5) A14(-1.5,14.5) A15(-0.5,14.5) A16(0.5,14.5) A17(1.5,14.5) A18(2.5,14.5) A19(3.5,14.5) A20(4.5,14.5) A21(5.5,14.5) A22(6.5,14.5) A23(7.5,14.5) A24(8.5,14.5) A25(9.5,14.5) A26(10.5,14.5) A27(11.5,14.5) A28(12.5,14.5) A29(13.5,14.5) A30(14.5,14.5) AA1(-14.5,-5.5) AA2(-13.5,-5.5) AA3(-12.5,-5.5) AA4(-11.5,-5.5) AA5(-10.5,-5.5) AA6(-9.5,-5.5) AA7(-8.5,-5.5) AA8(-7.5,-5.5) AA9(-6.5,-5.5) AA10(-5.5,-5.5) AA11(-4.5,-5.5) AA12(-3.5,-5.5) AA13(-2.5,-5.5) AA14(-1.5,-5.5) AA15(-0.5,-5.5) AA16(0.5,-5.5) AA17(1.5,-5.5) AA18(2.5,-5.5) AA19(3.5,-5.5) AA20(4.5,-5.5) AA21(5.5,-5.5) AA22(6.5,-5.5) AA23(7.5,-5.5) AA24(8.5,-5.5) AA25(9.5,-5.5) AA26(10.5,-5.5) AA27(11.5,-5.5) AA28(12.5,-5.5) AA29(13.5,-5.5) AA30(14.5,-5.5) AB1(-14.5,-6.5) AB2(-13.5,-6.5) AB3(-12.5,-6.5) AB4(-11.5,-6.5) AB5(-10.5,-6.5) AB6(-9.5,-6.5) AB7(-8.5,-6.5) AB8(-7.5,-6.5) AB9(-6.5,-6.5) AB10(-5.5,-6.5) AB11(-4.5,-6.5) AB12(-3.5,-6.5) AB13(-2.5,-6.5) AB14(-1.5,-6.5) AB15(-0.5,-6.5) AB16(0.5,-6.5) AB17(1.5,-6.5) AB18(2.5,-6.5) AB19(3.5,-6.5) AB20(4.5,-6.5) AB21(5.5,-6.5) AB22(6.5,-6.5) AB23(7.5,-6.5) AB24(8.5,-6.5) AB25(9.5,-6.5) AB26(10.5,-6.5) AB27(11.5,-6.5) AB28(12.5,-6.5) AB29(13.5,-6.5) AB30(14.5,-6.5) AC1(-14.5,-7.5) AC2(-13.5,-7.5) AC3(-12.5,-7.5) AC4(-11.5,-7.5) AC5(-10.5,-7.5) AC6(-9.5,-7.5) AC7(-8.5,-7.5) AC8(-7.5,-7.5) AC9(-6.5,-7.5) AC10(-5.5,-7.5) AC11(-4.5,-7.5) AC12(-3.5,-7.5) AC13(-2.5,-7.5) AC14(-1.5,-7.5) AC15(-0.5,-7.5) AC16(0.5,-7.5) AC17(1.5,-7.5) AC18(2.5,-7.5) AC19(3.5,-7.5) AC20(4.5,-7.5) AC21(5.5,-7.5) AC22(6.5,-7.5) AC23(7.5,-7.5) AC24(8.5,-7.5) AC25(9.5,-7.5) AC26(10.5,-7.5) AC27(11.5,-7.5) AC28(12.5,-7.5) AC29(13.5,-7.5) AC30(14.5,-7.5) AD1(-14.5,-8.5) AD2(-13.5,-8.5) AD3(-12.5,-8.5) AD4(-11.5,-8.5) AD5(-10.5,-8.5) AD6(-9.5,-8.5) AD7(-8.5,-8.5) AD8(-7.5,-8.5) AD9(-6.5,-8.5) AD10(-5.5,-8.5) AD11(-4.5,-8.5) AD12(-3.5,-8.5) AD13(-2.5,-8.5) AD14(-1.5,-8.5) AD15(-0.5,-8.5) AD16(0.5,-8.5) AD17(1.5,-8.5) AD18(2.5,-8.5) AD19(3.5,-8.5) AD20(4.5,-8.5) AD21(5.5,-8.5) AD22(6.5,-8.5) AD23(7.5,-8.5) AD24(8.5,-8.5) AD25(9.5,-8.5) AD26(10.5,-8.5) AD27(11.5,-8.5) AD28(12.5,-8.5) AD29(13.5,-8.5) AD30(14.5,-8.5) AE1(-14.5,-9.5) AE2(-13.5,-9.5) AE3(-12.5,-9.5) AE4(-11.5,-9.5) AE5(-10.5,-9.5) AE6(-9.5,-9.5) AE7(-8.5,-9.5) AE8(-7.5,-9.5) AE9(-6.5,-9.5) AE10(-5.5,-9.5) AE11(-4.5,-9.5) AE12(-3.5,-9.5) AE13(-2.5,-9.5) AE14(-1.5,-9.5) AE15(-0.5,-9.5) AE16(0.5,-9.5) AE17(1.5,-9.5) AE18(2.5,-9.5) AE19(3.5,-9.5) AE20(4.5,-9.5) AE21(5.5,-9.5) AE22(6.5,-9.5) AE23(7.5,-9.5) AE24(8.5,-9.5) AE25(9.5,-9.5) AE26(10.5,-9.5) AE27(11.5,-9.5) AE28(12.5,-9.5) AE29(13.5,-9.5) AE30(14.5,-9.5) AF1(-14.5,-10.5) AF2(-13.5,-10.5) AF3(-12.5,-10.5) AF4(-11.5,-10.5) AF5(-10.5,-10.5) AF6(-9.5,-10.5) AF7(-8.5,-10.5) AF8(-7.5,-10.5) AF9(-6.5,-10.5) AF10(-5.5,-10.5) AF11(-4.5,-10.5) AF12(-3.5,-10.5) AF13(-2.5,-10.5) AF14(-1.5,-10.5) AF15(-0.5,-10.5) AF16(0.5,-10.5) AF17(1.5,-10.5) AF18(2.5,-10.5) AF19(3.5,-10.5) AF20(4.5,-10.5) AF21(5.5,-10.5) AF22(6.5,-10.5) AF23(7.5,-10.5) AF24(8.5,-10.5) AF25(9.5,-10.5) AF26(10.5,-10.5) AF27(11.5,-10.5) AF28(12.5,-10.5) AF29(13.5,-10.5) AF30(14.5,-10.5) AG1(-14.5,-11.5) AG2(-13.5,-11.5) AG3(-12.5,-11.5) AG4(-11.5,-11.5) AG5(-10.5,-11.5) AG6(-9.5,-11.5) AG7(-8.5,-11.5) AG8(-7.5,-11.5) AG9(-6.5,-11.5) AG10(-5.5,-11.5) AG11(-4.5,-11.5) AG12(-3.5,-11.5) AG13(-2.5,-11.5) AG14(-1.5,-11.5) AG15(-0.5,-11.5) AG16(0.5,-11.5) AG17(1.5,-11.5) AG18(2.5,-11.5) AG19(3.5,-11.5) AG20(4.5,-11.5) AG21(5.5,-11.5) AG22(6.5,-11.5) AG23(7.5,-11.5) AG24(8.5,-11.5) AG25(9.5,-11.5) AG26(10.5,-11.5) AG27(11.5,-11.5) AG28(12.5,-11.5) AG29(13.5,-11.5) AG30(14.5,-11.5) AH1(-14.5,-12.5) AH2(-13.5,-12.5) AH3(-12.5,-12.5) AH4(-11.5,-12.5) AH5(-10.5,-12.5) AH6(-9.5,-12.5) AH7(-8.5,-12.5) AH8(-7.5,-12.5) AH9(-6.5,-12.5) AH10(-5.5,-12.5) AH11(-4.5,-12.5) AH12(-3.5,-12.5) AH13(-2.5,-12.5) AH14(-1.5,-12.5) AH15(-0.5,-12.5) AH16(0.5,-12.5) AH17(1.5,-12.5) AH18(2.5,-12.5) AH19(3.5,-12.5) AH20(4.5,-12.5) AH21(5.5,-12.5) AH22(6.5,-12.5) AH23(7.5,-12.5) AH24(8.5,-12.5) AH25(9.5,-12.5) AH26(10.5,-12.5) AH27(11.5,-12.5) AH28(12.5,-12.5) AH29(13.5,-12.5) AH30(14.5,-12.5) AJ1(-14.5,-13.5) AJ2(-13.5,-13.5) AJ3(-12.5,-13.5) AJ4(-11.5,-13.5) AJ5(-10.5,-13.5) AJ6(-9.5,-13.5) AJ7(-8.5,-13.5) AJ8(-7.5,-13.5) AJ9(-6.5,-13.5) AJ10(-5.5,-13.5) AJ11(-4.5,-13.5) AJ12(-3.5,-13.5) AJ13(-2.5,-13.5) AJ14(-1.5,-13.5) AJ15(-0.5,-13.5) AJ16(0.5,-13.5) AJ17(1.5,-13.5) AJ18(2.5,-13.5) AJ19(3.5,-13.5) AJ20(4.5,-13.5) AJ21(5.5,-13.5) AJ22(6.5,-13.5) AJ23(7.5,-13.5) AJ24(8.5,-13.5) AJ25(9.5,-13.5) AJ26(10.5,-13.5) AJ27(11.5,-13.5) AJ28(12.5,-13.5) AJ29(13.5,-13.5) AJ30(14.5,-13.5) AK1(-14.5,-14.5) AK2(-13.5,-14.5) AK3(-12.5,-14.5) AK4(-11.5,-14.5) AK5(-10.5,-14.5) AK6(-9.5,-14.5) AK7(-8.5,-14.5) AK8(-7.5,-14.5) AK9(-6.5,-14.5) AK10(-5.5,-14.5) AK11(-4.5,-14.5) AK12(-3.5,-14.5) AK13(-2.5,-14.5) AK14(-1.5,-14.5) AK15(-0.5,-14.5) AK16(0.5,-14.5) AK17(1.5,-14.5) AK18(2.5,-14.5) AK19(3.5,-14.5) AK20(4.5,-14.5) AK21(5.5,-14.5) AK22(6.5,-14.5) AK23(7.5,-14.5) AK24(8.5,-14.5) AK25(9.5,-14.5) AK26(10.5,-14.5) AK27(11.5,-14.5) AK28(12.5,-14.5) AK29(13.5,-14.5) AK30(14.5,-14.5) B1(-14.5,13.5) B2(-13.5,13.5) B3(-12.5,13.5) B4(-11.5,13.5) B5(-10.5,13.5) B6(-9.5,13.5) B7(-8.5,13.5) B8(-7.5,13.5) B9(-6.5,13.5) B10(-5.5,13.5) B11(-4.5,13.5) B12(-3.5,13.5) B13(-2.5,13.5) B14(-1.5,13.5) B15(-0.5,13.5) B16(0.5,13.5) B17(1.5,13.5) B18(2.5,13.5) B19(3.5,13.5) B20(4.5,13.5) B21(5.5,13.5) B22(6.5,13.5) B23(7.5,13.5) B24(8.5,13.5) B25(9.5,13.5) B26(10.5,13.5) B27(11.5,13.5) B28(12.5,13.5) B29(13.5,13.5) B30(14.5,13.5) C1(-14.5,12.5) C2(-13.5,12.5) C3(-12.5,12.5) C4(-11.5,12.5) C5(-10.5,12.5) C6(-9.5,12.5) C7(-8.5,12.5) C8(-7.5,12.5) C9(-6.5,12.5) C10(-5.5,12.5) C11(-4.5,12.5) C12(-3.5,12.5) C13(-2.5,12.5) C14(-1.5,12.5) C15(-0.5,12.5) C16(0.5,12.5) C17(1.5,12.5) C18(2.5,12.5) C19(3.5,12.5) C20(4.5,12.5) C21(5.5,12.5) C22(6.5,12.5) C23(7.5,12.5) C24(8.5,12.5) C25(9.5,12.5) C26(10.5,12.5) C27(11.5,12.5) C28(12.5,12.5) C29(13.5,12.5) C30(14.5,12.5) D1(-14.5,11.5) D2(-13.5,11.5) D3(-12.5,11.5) D4(-11.5,11.5) D5(-10.5,11.5) D6(-9.5,11.5) D7(-8.5,11.5) D8(-7.5,11.5) D9(-6.5,11.5) D10(-5.5,11.5) D11(-4.5,11.5) D12(-3.5,11.5) D13(-2.5,11.5) D14(-1.5,11.5) D15(-0.5,11.5) D16(0.5,11.5) D17(1.5,11.5) D18(2.5,11.5) D19(3.5,11.5) D20(4.5,11.5) D21(5.5,11.5) D22(6.5,11.5) D23(7.5,11.5) D24(8.5,11.5) D25(9.5,11.5) D26(10.5,11.5) D27(11.5,11.5) D28(12.5,11.5) D29(13.5,11.5) D30(14.5,11.5) E1(-14.5,10.5) E2(-13.5,10.5) E3(-12.5,10.5) E4(-11.5,10.5) E5(-10.5,10.5) E6(-9.5,10.5) E7(-8.5,10.5) E8(-7.5,10.5) E9(-6.5,10.5) E10(-5.5,10.5) E11(-4.5,10.5) E12(-3.5,10.5) E13(-2.5,10.5) E14(-1.5,10.5) E15(-0.5,10.5) E16(0.5,10.5) E17(1.5,10.5) E18(2.5,10.5) E19(3.5,10.5) E20(4.5,10.5) E21(5.5,10.5) E22(6.5,10.5) E23(7.5,10.5) E24(8.5,10.5) E25(9.5,10.5) E26(10.5,10.5) E27(11.5,10.5) E28(12.5,10.5) E29(13.5,10.5) E30(14.5,10.5) F1(-14.5,9.5) F2(-13.5,9.5) F3(-12.5,9.5) F4(-11.5,9.5) F5(-10.5,9.5) F6(-9.5,9.5) F7(-8.5,9.5) F8(-7.5,9.5) F9(-6.5,9.5) F10(-5.5,9.5) F11(-4.5,9.5) F12(-3.5,9.5) F13(-2.5,9.5) F14(-1.5,9.5) F15(-0.5,9.5) F16(0.5,9.5) F17(1.5,9.5) F18(2.5,9.5) F19(3.5,9.5) F20(4.5,9.5) F21(5.5,9.5) F22(6.5,9.5) F23(7.5,9.5) F24(8.5,9.5) F25(9.5,9.5) F26(10.5,9.5) F27(11.5,9.5) F28(12.5,9.5) F29(13.5,9.5) F30(14.5,9.5) G1(-14.5,8.5) G2(-13.5,8.5) G3(-12.5,8.5) G4(-11.5,8.5) G5(-10.5,8.5) G6(-9.5,8.5) G7(-8.5,8.5) G8(-7.5,8.5) G9(-6.5,8.5) G10(-5.5,8.5) G11(-4.5,8.5) G12(-3.5,8.5) G13(-2.5,8.5) G14(-1.5,8.5) G15(-0.5,8.5) G16(0.5,8.5) G17(1.5,8.5) G18(2.5,8.5) G19(3.5,8.5) G20(4.5,8.5) G21(5.5,8.5) G22(6.5,8.5) G23(7.5,8.5) G24(8.5,8.5) G25(9.5,8.5) G26(10.5,8.5) G27(11.5,8.5) G28(12.5,8.5) G29(13.5,8.5) G30(14.5,8.5) H1(-14.5,7.5) H2(-13.5,7.5) H3(-12.5,7.5) H4(-11.5,7.5) H5(-10.5,7.5) H6(-9.5,7.5) H7(-8.5,7.5) H8(-7.5,7.5) H9(-6.5,7.5) H10(-5.5,7.5) H11(-4.5,7.5) H12(-3.5,7.5) H13(-2.5,7.5) H14(-1.5,7.5) H15(-0.5,7.5) H16(0.5,7.5) H17(1.5,7.5) H18(2.5,7.5) H19(3.5,7.5) H20(4.5,7.5) H21(5.5,7.5) H22(6.5,7.5) H23(7.5,7.5) H24(8.5,7.5) H25(9.5,7.5) H26(10.5,7.5) H27(11.5,7.5) H28(12.5,7.5) H29(13.5,7.5) H30(14.5,7.5) J1(-14.5,6.5) J2(-13.5,6.5) J3(-12.5,6.5) J4(-11.5,6.5) J5(-10.5,6.5) J6(-9.5,6.5) J7(-8.5,6.5) J8(-7.5,6.5) J9(-6.5,6.5) J10(-5.5,6.5) J11(-4.5,6.5) J12(-3.5,6.5) J13(-2.5,6.5) J14(-1.5,6.5) J15(-0.5,6.5) J16(0.5,6.5) J17(1.5,6.5) J18(2.5,6.5) J19(3.5,6.5) J20(4.5,6.5) J21(5.5,6.5) J22(6.5,6.5) J23(7.5,6.5) J24(8.5,6.5) J25(9.5,6.5) J26(10.5,6.5) J27(11.5,6.5) J28(12.5,6.5) J29(13.5,6.5) J30(14.5,6.5) K1(-14.5,5.5) K2(-13.5,5.5) K3(-12.5,5.5) K4(-11.5,5.5) K5(-10.5,5.5) K6(-9.5,5.5) K7(-8.5,5.5) K8(-7.5,5.5) K9(-6.5,5.5) K10(-5.5,5.5) K11(-4.5,5.5) K12(-3.5,5.5) K13(-2.5,5.5) K14(-1.5,5.5) K15(-0.5,5.5) K16(0.5,5.5) K17(1.5,5.5) K18(2.5,5.5) K19(3.5,5.5) K20(4.5,5.5) K21(5.5,5.5) K22(6.5,5.5) K23(7.5,5.5) K24(8.5,5.5) K25(9.5,5.5) K26(10.5,5.5) K27(11.5,5.5) K28(12.5,5.5) K29(13.5,5.5) K30(14.5,5.5) L1(-14.5,4.5) L2(-13.5,4.5) L3(-12.5,4.5) L4(-11.5,4.5) L5(-10.5,4.5) L6(-9.5,4.5) L7(-8.5,4.5) L8(-7.5,4.5) L9(-6.5,4.5) L10(-5.5,4.5) L11(-4.5,4.5) L12(-3.5,4.5) L13(-2.5,4.5) L14(-1.5,4.5) L15(-0.5,4.5) L16(0.5,4.5) L17(1.5,4.5) L18(2.5,4.5) L19(3.5,4.5) L20(4.5,4.5) L21(5.5,4.5) L22(6.5,4.5) L23(7.5,4.5) L24(8.5,4.5) L25(9.5,4.5) L26(10.5,4.5) L27(11.5,4.5) L28(12.5,4.5) L29(13.5,4.5) L30(14.5,4.5) M1(-14.5,3.5) M2(-13.5,3.5) M3(-12.5,3.5) M4(-11.5,3.5) M5(-10.5,3.5) M6(-9.5,3.5) M7(-8.5,3.5) M8(-7.5,3.5) M9(-6.5,3.5) M10(-5.5,3.5) M11(-4.5,3.5) M12(-3.5,3.5) M13(-2.5,3.5) M14(-1.5,3.5) M15(-0.5,3.5) M16(0.5,3.5) M17(1.5,3.5) M18(2.5,3.5) M19(3.5,3.5) M20(4.5,3.5) M21(5.5,3.5) M22(6.5,3.5) M23(7.5,3.5) M24(8.5,3.5) M25(9.5,3.5) M26(10.5,3.5) M27(11.5,3.5) M28(12.5,3.5) M29(13.5,3.5) M30(14.5,3.5) N1(-14.5,2.5) N2(-13.5,2.5) N3(-12.5,2.5) N4(-11.5,2.5) N5(-10.5,2.5) N6(-9.5,2.5) N7(-8.5,2.5) N8(-7.5,2.5) N9(-6.5,2.5) N10(-5.5,2.5) N11(-4.5,2.5) N12(-3.5,2.5) N13(-2.5,2.5) N14(-1.5,2.5) N15(-0.5,2.5) N16(0.5,2.5) N17(1.5,2.5) N18(2.5,2.5) N19(3.5,2.5) N20(4.5,2.5) N21(5.5,2.5) N22(6.5,2.5) N23(7.5,2.5) N24(8.5,2.5) N25(9.5,2.5) N26(10.5,2.5) N27(11.5,2.5) N28(12.5,2.5) N29(13.5,2.5) N30(14.5,2.5) P1(-14.5,1.5) P2(-13.5,1.5) P3(-12.5,1.5) P4(-11.5,1.5) P5(-10.5,1.5) P6(-9.5,1.5) P7(-8.5,1.5) P8(-7.5,1.5) P9(-6.5,1.5) P10(-5.5,1.5) P11(-4.5,1.5) P12(-3.5,1.5) P13(-2.5,1.5) P14(-1.5,1.5) P15(-0.5,1.5) P16(0.5,1.5) P17(1.5,1.5) P18(2.5,1.5) P19(3.5,1.5) P20(4.5,1.5) P21(5.5,1.5) P22(6.5,1.5) P23(7.5,1.5) P24(8.5,1.5) P25(9.5,1.5) P26(10.5,1.5) P27(11.5,1.5) P28(12.5,1.5) P29(13.5,1.5) P30(14.5,1.5) R1(-14.5,0.5) R2(-13.5,0.5) R3(-12.5,0.5) R4(-11.5,0.5) R5(-10.5,0.5) R6(-9.5,0.5) R7(-8.5,0.5) R8(-7.5,0.5) R9(-6.5,0.5) R10(-5.5,0.5) R11(-4.5,0.5) R12(-3.5,0.5) R13(-2.5,0.5) R14(-1.5,0.5) R15(-0.5,0.5) R16(0.5,0.5) R17(1.5,0.5) R18(2.5,0.5) R19(3.5,0.5) R20(4.5,0.5) R21(5.5,0.5) R22(6.5,0.5) R23(7.5,0.5) R24(8.5,0.5) R25(9.5,0.5) R26(10.5,0.5) R27(11.5,0.5) R28(12.5,0.5) R29(13.5,0.5) R30(14.5,0.5) T1(-14.5,-0.5) T2(-13.5,-0.5) T3(-12.5,-0.5) T4(-11.5,-0.5) T5(-10.5,-0.5) T6(-9.5,-0.5) T7(-8.5,-0.5) T8(-7.5,-0.5) T9(-6.5,-0.5) T10(-5.5,-0.5) T11(-4.5,-0.5) T12(-3.5,-0.5) T13(-2.5,-0.5) T14(-1.5,-0.5) T15(-0.5,-0.5) T16(0.5,-0.5) T17(1.5,-0.5) T18(2.5,-0.5) T19(3.5,-0.5) T20(4.5,-0.5) T21(5.5,-0.5) T22(6.5,-0.5) T23(7.5,-0.5) T24(8.5,-0.5) T25(9.5,-0.5) T26(10.5,-0.5) T27(11.5,-0.5) T28(12.5,-0.5) T29(13.5,-0.5) T30(14.5,-0.5) U1(-14.5,-1.5) U2(-13.5,-1.5) U3(-12.5,-1.5) U4(-11.5,-1.5) U5(-10.5,-1.5) U6(-9.5,-1.5) U7(-8.5,-1.5) U8(-7.5,-1.5) U9(-6.5,-1.5) U10(-5.5,-1.5) U11(-4.5,-1.5) U12(-3.5,-1.5) U13(-2.5,-1.5) U14(-1.5,-1.5) U15(-0.5,-1.5) U16(0.5,-1.5) U17(1.5,-1.5) U18(2.5,-1.5) U19(3.5,-1.5) U20(4.5,-1.5) U21(5.5,-1.5) U22(6.5,-1.5) U23(7.5,-1.5) U24(8.5,-1.5) U25(9.5,-1.5) U26(10.5,-1.5) U27(11.5,-1.5) U28(12.5,-1.5) U29(13.5,-1.5) U30(14.5,-1.5) V1(-14.5,-2.5) V2(-13.5,-2.5) V3(-12.5,-2.5) V4(-11.5,-2.5) V5(-10.5,-2.5) V6(-9.5,-2.5) V7(-8.5,-2.5) V8(-7.5,-2.5) V9(-6.5,-2.5) V10(-5.5,-2.5) V11(-4.5,-2.5) V12(-3.5,-2.5) V13(-2.5,-2.5) V14(-1.5,-2.5) V15(-0.5,-2.5) V16(0.5,-2.5) V17(1.5,-2.5) V18(2.5,-2.5) V19(3.5,-2.5) V20(4.5,-2.5) V21(5.5,-2.5) V22(6.5,-2.5) V23(7.5,-2.5) V24(8.5,-2.5) V25(9.5,-2.5) V26(10.5,-2.5) V27(11.5,-2.5) V28(12.5,-2.5) V29(13.5,-2.5) V30(14.5,-2.5) W1(-14.5,-3.5) W2(-13.5,-3.5) W3(-12.5,-3.5) W4(-11.5,-3.5) W5(-10.5,-3.5) W6(-9.5,-3.5) W7(-8.5,-3.5) W8(-7.5,-3.5) W9(-6.5,-3.5) W10(-5.5,-3.5) W11(-4.5,-3.5) W12(-3.5,-3.5) W13(-2.5,-3.5) W14(-1.5,-3.5) W15(-0.5,-3.5) W16(0.5,-3.5) W17(1.5,-3.5) W18(2.5,-3.5) W19(3.5,-3.5) W20(4.5,-3.5) W21(5.5,-3.5) W22(6.5,-3.5) W23(7.5,-3.5) W24(8.5,-3.5) W25(9.5,-3.5) W26(10.5,-3.5) W27(11.5,-3.5) W28(12.5,-3.5) W29(13.5,-3.5) W30(14.5,-3.5) Y1(-14.5,-4.5) Y2(-13.5,-4.5) Y3(-12.5,-4.5) Y4(-11.5,-4.5) Y5(-10.5,-4.5) Y6(-9.5,-4.5) Y7(-8.5,-4.5) Y8(-7.5,-4.5) Y9(-6.5,-4.5) Y10(-5.5,-4.5) Y11(-4.5,-4.5) Y12(-3.5,-4.5) Y13(-2.5,-4.5) Y14(-1.5,-4.5) Y15(-0.5,-4.5) Y16(0.5,-4.5) Y17(1.5,-4.5) Y18(2.5,-4.5) Y19(3.5,-4.5) Y20(4.5,-4.5) Y21(5.5,-4.5) Y22(6.5,-4.5) Y23(7.5,-4.5) Y24(8.5,-4.5) Y25(9.5,-4.5) Y26(10.5,-4.5) Y27(11.5,-4.5) Y28(12.5,-4.5) Y29(13.5,-4.5) Y30(14.5,-4.5)
Top Overlay:
  lines w0.15: -15.5,-15.5 15.5,-15.5 15.5,15.5 -14.7,15.5 -15.5,14.7 -15.5,-15.5